# EAGLE library part L70B-M39 (library L70B-M39)
Quectel L70B-M39 GPS Module Source: Datasheet
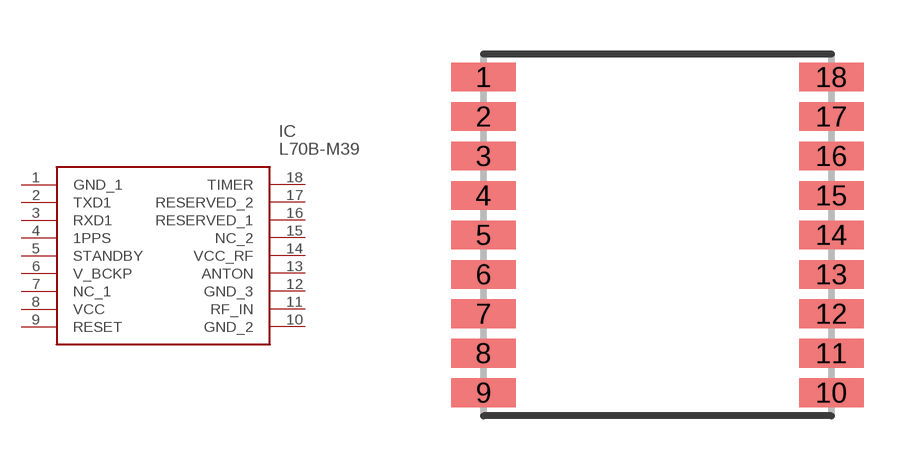
[diagram p0: symbol with the pads of L76; footprint L76]

Designator prefix IC

## L70B-M39 (Description: Quectel L70B-M39 GPS Module; Height: mm; Manufacturer_Name: Quectel; Manufacturer_Part_Number: L70B-M39; Mouser_Part_Number: 277-L70B-M39; Mouser_Price-Stock: https://www.mouser.co.uk/ProductDetail/Quectel/L70B-M39?qs=GedFDFLaBXEc%2FApFWhGl1g%3D%3D)  [L76]
1  GND_1
2  TXD1
3  RXD1
4  1PPS
5  STANDBY
6  V_BCKP
7  NC_1
8  VCC
9  RESET
10  GND_2
11  RF_IN
12  GND_3
13  ANTON
14  VCC_RF
15  NC_2
16  RESERVED_1
17  RESERVED_2
18  TIMER

## Footprint L76 (pad centres in mm)
L76
smd 1.8 x 0.8: 1 -4.85,4.4; 2 -4.85,3.3; 3 -4.85,2.2; 4 -4.85,1.1; 5 -4.85,0; 6 -4.85,-1.1; 7 -4.85,-2.2; 8 -4.85,-3.3; 9 -4.85,-4.4; 10 4.85,-4.4; 11 4.85,-3.3; 12 4.85,-2.2; 13 4.85,-1.1; 14 4.85,0; 15 4.85,1.1; 16 4.85,2.2; 17 4.85,3.3; 18 4.85,4.4